# Altium footprint library con-3m.PCBLIB: 62 footprints (part 4 of 6)
Each footprint in its own frame and in the unit in brackets; x right, y up, seen from the top. Pads: shape width x height; smd on the part's side, far side on the other; paste and mask are expansions set on the pad; w line width, h text height; cw(c..) or ccw(c..) is an arc to the next point about the centre after c.
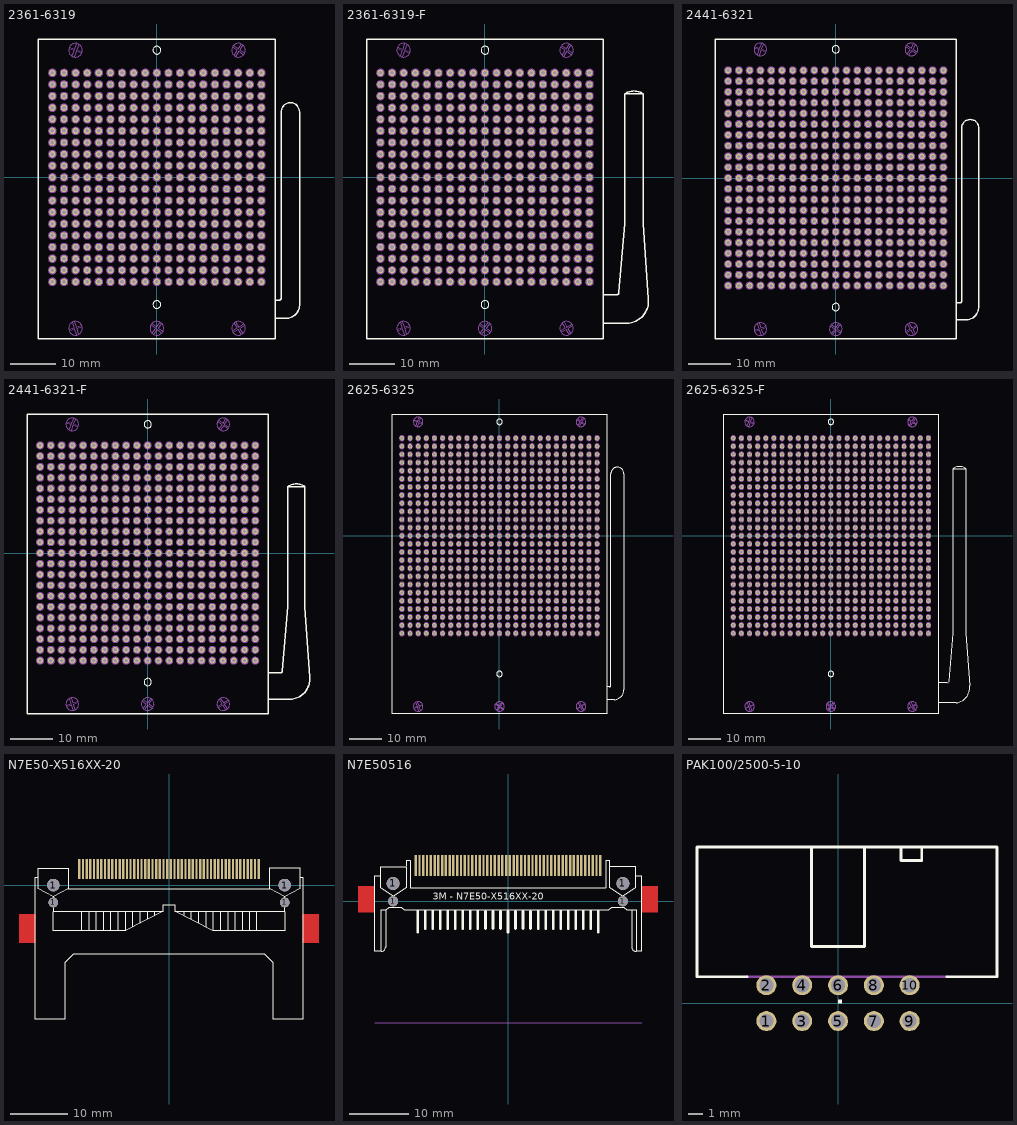
[diagram p3: the footprints below, top view; thin cyan lines are the x and y axes]

## 2361-6319 [mil]
pads (361):
  round 55.12 hole 31.5: A1(-900,900) A2(-800,900) A3(-700,900) A4(-600,900) A5(-500,900) A6(-400,900) A7(-300,900) A8(-200,900) A9(-100,900) A10(0,900) A11(100,900) A12(200,900) A13(300,900) A14(400,900) A15(500,900) A16(600,900) A17(700,900) A18(800,900) A19(900,900) B1(-900,800) B2(-800,800) B3(-700,800) B4(-600,800) B5(-500,800) B6(-400,800) B7(-300,800) B8(-200,800) B9(-100,800) B10(0,800) B11(100,800) B12(200,800) B13(300,800) B14(400,800) B15(500,800) B16(600,800) B17(700,800) B18(800,800) B19(900,800) C1(-900,700) C2(-800,700) C3(-700,700) C4(-600,700) C5(-500,700) C6(-400,700) C7(-300,700) C8(-200,700) C9(-100,700) C10(0,700) C11(100,700) C12(200,700) C13(300,700) C14(400,700) C15(500,700) C16(600,700) C17(700,700) C18(800,700) C19(900,700) D1(-900,600) D2(-800,600) D3(-700,600) D4(-600,600) D5(-500,600) D6(-400,600) D7(-300,600) D8(-200,600) D9(-100,600) D10(0,600) D11(100,600) D12(200,600) D13(300,600) D14(400,600) D15(500,600) D16(600,600) D17(700,600) D18(800,600) D19(900,600) E1(-900,500) E2(-800,500) E3(-700,500) E4(-600,500) E5(-500,500) E6(-400,500) E7(-300,500) E8(-200,500) E9(-100,500) E10(0,500) E11(100,500) E12(200,500) E13(300,500) E14(400,500) E15(500,500) E16(600,500) E17(700,500) E18(800,500) E19(900,500) F1(-900,400) F2(-800,400) F3(-700,400) F4(-600,400) F5(-500,400) F6(-400,400) F7(-300,400) F8(-200,400) F9(-100,400) F10(0,400) F11(100,400) F12(200,400) F13(300,400) F14(400,400) F15(500,400) F16(600,400) F17(700,400) F18(800,400) F19(900,400) G1(-900,300) G2(-800,300) G3(-700,300) G4(-600,300) G5(-500,300) G6(-400,300) G7(-300,300) G8(-200,300) G9(-100,300) G10(0,300) G11(100,300) G12(200,300) G13(300,300) G14(400,300) G15(500,300) G16(600,300) G17(700,300) G18(800,300) G19(900,300) H1(-900,200) H2(-800,200) H3(-700,200) H4(-600,200) H5(-500,200) H6(-400,200) H7(-300,200) H8(-200,200) H9(-100,200) H10(0,200) H11(100,200) H12(200,200) H13(300,200) H14(400,200) H15(500,200) H16(600,200) H17(700,200) H18(800,200) H19(900,200) J1(-900,100) J2(-800,100) J3(-700,100) J4(-600,100) J5(-500,100) J6(-400,100) J7(-300,100) J8(-200,100) J9(-100,100) J10(0,100) J11(100,100) J12(200,100) J13(300,100) J14(400,100) J15(500,100) J16(600,100) J17(700,100) J18(800,100) J19(900,100) K1(-900,0) K2(-800,0) K3(-700,0) K4(-600,0) K5(-500,0) K6(-400,0) K7(-300,0) K8(-200,0) K9(-100,0) K10(0,0) K11(100,0) K12(200,0) K13(300,0) K14(400,0) K15(500,0) K16(600,0) K17(700,0) K18(800,0) K19(900,0) L1(-900,-100) L2(-800,-100) L3(-700,-100) L4(-600,-100) L5(-500,-100) L6(-400,-100) L7(-300,-100) L8(-200,-100) L9(-100,-100) L10(0,-100) L11(100,-100) L12(200,-100) L13(300,-100) L14(400,-100) L15(500,-100) L16(600,-100) L17(700,-100) L18(800,-100) L19(900,-100) M1(-900,-200) M2(-800,-200) M3(-700,-200) M4(-600,-200) M5(-500,-200) M6(-400,-200) M7(-300,-200) M8(-200,-200) M9(-100,-200) M10(0,-200) M11(100,-200) M12(200,-200) M13(300,-200) M14(400,-200) M15(500,-200) M16(600,-200) M17(700,-200) M18(800,-200) M19(900,-200) N1(-900,-300) N2(-800,-300) N3(-700,-300) N4(-600,-300) N5(-500,-300) N6(-400,-300) N7(-300,-300) N8(-200,-300) N9(-100,-300) N10(0,-300) N11(100,-300) N12(200,-300) N13(300,-300) N14(400,-300) N15(500,-300) N16(600,-300) N17(700,-300) N18(800,-300) N19(900,-300) P1(-900,-400) P2(-800,-400) P3(-700,-400) P4(-600,-400) P5(-500,-400) P6(-400,-400) P7(-300,-400) P8(-200,-400) P9(-100,-400) P10(0,-400) P11(100,-400) P12(200,-400) P13(300,-400) P14(400,-400) P15(500,-400) P16(600,-400) P17(700,-400) P18(800,-400) P19(900,-400) Q1(-900,-500) Q2(-800,-500) Q3(-700,-500) Q4(-600,-500) Q5(-500,-500) Q6(-400,-500) Q7(-300,-500) Q8(-200,-500) Q9(-100,-500) Q10(0,-500) Q11(100,-500) Q12(200,-500) Q13(300,-500) Q14(400,-500) Q15(500,-500) Q16(600,-500) Q17(700,-500) Q18(800,-500) Q19(900,-500) R1(-900,-600) R2(-800,-600) R3(-700,-600) R4(-600,-600) R5(-500,-600) R6(-400,-600) R7(-300,-600) R8(-200,-600) R9(-100,-600) R10(0,-600) R11(100,-600) R12(200,-600) R13(300,-600) R14(400,-600) R15(500,-600) R16(600,-600) R17(700,-600) R18(800,-600) R19(900,-600) S1(-900,-700) S2(-800,-700) S3(-700,-700) S4(-600,-700) S5(-500,-700) S6(-400,-700) S7(-300,-700) S8(-200,-700) S9(-100,-700) S10(0,-700) S11(100,-700) S12(200,-700) S13(300,-700) S14(400,-700) S15(500,-700) S16(600,-700) S17(700,-700) S18(800,-700) S19(900,-700) T1(-900,-800) T2(-800,-800) T3(-700,-800) T4(-600,-800) T5(-500,-800) T6(-400,-800) T7(-300,-800) T8(-200,-800) T9(-100,-800) T10(0,-800) T11(100,-800) T12(200,-800) T13(300,-800) T14(400,-800) T15(500,-800) T16(600,-800) T17(700,-800) T18(800,-800) T19(900,-800) U1(-900,-900) U2(-800,-900) U3(-700,-900) U4(-600,-900) U5(-500,-900) U6(-400,-900) U7(-300,-900) U8(-200,-900) U9(-100,-900) U10(0,-900) U11(100,-900) U12(200,-900) U13(300,-900) U14(400,-900) U15(500,-900) U16(600,-900) U17(700,-900) U18(800,-900) U19(900,-900)
Top Overlay:
  circle w4: c0,1095.29 r34.01
  circle w4: c0,-1095.06 r34.01
  lines w12: 1021.3,-1214.76 1110.43,-1214.76 ccw(c1108.37,-1094.59) 1228.54,-1092.52 1228.54,564.96 ccw(c1149.8,564.96) 1149.8,643.7 ccw(c1149.8,564.96) 1071.06,564.96 1071.06,-1037.6 cw(c1051.38,-1037.6) 1051.38,-1057.28 1021.3,-1057.28 ; -1019.88,-1391.93 1019.49,-1391.93 1019.49,1191.54 -1019.88,1191.54 -1019.88,-1391.93
Mechanical 16:
  drawing of 406 lines, arcs and shapes, not listed

## 2361-6319-F [mil]
pads (361):
  round 55.12 hole 31.5: A1(-900,900) A2(-800,900) A3(-700,900) A4(-600,900) A5(-500,900) A6(-400,900) A7(-300,900) A8(-200,900) A9(-100,900) A10(0,900) A11(100,900) A12(200,900) A13(300,900) A14(400,900) A15(500,900) A16(600,900) A17(700,900) A18(800,900) A19(900,900) B1(-900,800) B2(-800,800) B3(-700,800) B4(-600,800) B5(-500,800) B6(-400,800) B7(-300,800) B8(-200,800) B9(-100,800) B10(0,800) B11(100,800) B12(200,800) B13(300,800) B14(400,800) B15(500,800) B16(600,800) B17(700,800) B18(800,800) B19(900,800) C1(-900,700) C2(-800,700) C3(-700,700) C4(-600,700) C5(-500,700) C6(-400,700) C7(-300,700) C8(-200,700) C9(-100,700) C10(0,700) C11(100,700) C12(200,700) C13(300,700) C14(400,700) C15(500,700) C16(600,700) C17(700,700) C18(800,700) C19(900,700) D1(-900,600) D2(-800,600) D3(-700,600) D4(-600,600) D5(-500,600) D6(-400,600) D7(-300,600) D8(-200,600) D9(-100,600) D10(0,600) D11(100,600) D12(200,600) D13(300,600) D14(400,600) D15(500,600) D16(600,600) D17(700,600) D18(800,600) D19(900,600) E1(-900,500) E2(-800,500) E3(-700,500) E4(-600,500) E5(-500,500) E6(-400,500) E7(-300,500) E8(-200,500) E9(-100,500) E10(0,500) E11(100,500) E12(200,500) E13(300,500) E14(400,500) E15(500,500) E16(600,500) E17(700,500) E18(800,500) E19(900,500) F1(-900,400) F2(-800,400) F3(-700,400) F4(-600,400) F5(-500,400) F6(-400,400) F7(-300,400) F8(-200,400) F9(-100,400) F10(0,400) F11(100,400) F12(200,400) F13(300,400) F14(400,400) F15(500,400) F16(600,400) F17(700,400) F18(800,400) F19(900,400) G1(-900,300) G2(-800,300) G3(-700,300) G4(-600,300) G5(-500,300) G6(-400,300) G7(-300,300) G8(-200,300) G9(-100,300) G10(0,300) G11(100,300) G12(200,300) G13(300,300) G14(400,300) G15(500,300) G16(600,300) G17(700,300) G18(800,300) G19(900,300) H1(-900,200) H2(-800,200) H3(-700,200) H4(-600,200) H5(-500,200) H6(-400,200) H7(-300,200) H8(-200,200) H9(-100,200) H10(0,200) H11(100,200) H12(200,200) H13(300,200) H14(400,200) H15(500,200) H16(600,200) H17(700,200) H18(800,200) H19(900,200) J1(-900,100) J2(-800,100) J3(-700,100) J4(-600,100) J5(-500,100) J6(-400,100) J7(-300,100) J8(-200,100) J9(-100,100) J10(0,100) J11(100,100) J12(200,100) J13(300,100) J14(400,100) J15(500,100) J16(600,100) J17(700,100) J18(800,100) J19(900,100) K1(-900,0) K2(-800,0) K3(-700,0) K4(-600,0) K5(-500,0) K6(-400,0) K7(-300,0) K8(-200,0) K9(-100,0) K10(0,0) K11(100,0) K12(200,0) K13(300,0) K14(400,0) K15(500,0) K16(600,0) K17(700,0) K18(800,0) K19(900,0) L1(-900,-100) L2(-800,-100) L3(-700,-100) L4(-600,-100) L5(-500,-100) L6(-400,-100) L7(-300,-100) L8(-200,-100) L9(-100,-100) L10(0,-100) L11(100,-100) L12(200,-100) L13(300,-100) L14(400,-100) L15(500,-100) L16(600,-100) L17(700,-100) L18(800,-100) L19(900,-100) M1(-900,-200) M2(-800,-200) M3(-700,-200) M4(-600,-200) M5(-500,-200) M6(-400,-200) M7(-300,-200) M8(-200,-200) M9(-100,-200) M10(0,-200) M11(100,-200) M12(200,-200) M13(300,-200) M14(400,-200) M15(500,-200) M16(600,-200) M17(700,-200) M18(800,-200) M19(900,-200) N1(-900,-300) N2(-800,-300) N3(-700,-300) N4(-600,-300) N5(-500,-300) N6(-400,-300) N7(-300,-300) N8(-200,-300) N9(-100,-300) N10(0,-300) N11(100,-300) N12(200,-300) N13(300,-300) N14(400,-300) N15(500,-300) N16(600,-300) N17(700,-300) N18(800,-300) N19(900,-300) P1(-900,-400) P2(-800,-400) P3(-700,-400) P4(-600,-400) P5(-500,-400) P6(-400,-400) P7(-300,-400) P8(-200,-400) P9(-100,-400) P10(0,-400) P11(100,-400) P12(200,-400) P13(300,-400) P14(400,-400) P15(500,-400) P16(600,-400) P17(700,-400) P18(800,-400) P19(900,-400) Q1(-900,-500) Q2(-800,-500) Q3(-700,-500) Q4(-600,-500) Q5(-500,-500) Q6(-400,-500) Q7(-300,-500) Q8(-200,-500) Q9(-100,-500) Q10(0,-500) Q11(100,-500) Q12(200,-500) Q13(300,-500) Q14(400,-500) Q15(500,-500) Q16(600,-500) Q17(700,-500) Q18(800,-500) Q19(900,-500) R1(-900,-600) R2(-800,-600) R3(-700,-600) R4(-600,-600) R5(-500,-600) R6(-400,-600) R7(-300,-600) R8(-200,-600) R9(-100,-600) R10(0,-600) R11(100,-600) R12(200,-600) R13(300,-600) R14(400,-600) R15(500,-600) R16(600,-600) R17(700,-600) R18(800,-600) R19(900,-600) S1(-900,-700) S2(-800,-700) S3(-700,-700) S4(-600,-700) S5(-500,-700) S6(-400,-700) S7(-300,-700) S8(-200,-700) S9(-100,-700) S10(0,-700) S11(100,-700) S12(200,-700) S13(300,-700) S14(400,-700) S15(500,-700) S16(600,-700) S17(700,-700) S18(800,-700) S19(900,-700) T1(-900,-800) T2(-800,-800) T3(-700,-800) T4(-600,-800) T5(-500,-800) T6(-400,-800) T7(-300,-800) T8(-200,-800) T9(-100,-800) T10(0,-800) T11(100,-800) T12(200,-800) T13(300,-800) T14(400,-800) T15(500,-800) T16(600,-800) T17(700,-800) T18(800,-800) T19(900,-800) U1(-900,-900) U2(-800,-900) U3(-700,-900) U4(-600,-900) U5(-500,-900) U6(-400,-900) U7(-300,-900) U8(-200,-900) U9(-100,-900) U10(0,-900) U11(100,-900) U12(200,-900) U13(300,-900) U14(400,-900) U15(500,-900) U16(600,-900) U17(700,-900) U18(800,-900) U19(900,-900)
Top Overlay:
  circle w4: c0,1095.29 r34.01
  circle w4: c0,-1095.06 r34.01
  lines w12: 1021.5,-1254.72 1244.49,-1254.72 ccw(c1220.87,-1069.68) 1405.91,-1046.06 1362.2,-399.61 1362.2,718.5 ; 1025.43,-1010.63 1134.25,-1010.63 ccw(c1134.25,-990.94) 1153.94,-990.94 1204.72,-397.64 1204.72,718.5 ; 1204.72,718.5 1362.2,718.5 ; 1204.72,718.5 cw(c1283.46,610.84) 1362.2,718.5 ; -1019.88,-1391.93 1019.49,-1391.93 1019.49,1191.54 -1019.88,1191.54 -1019.88,-1391.93
Mechanical 16:
  drawing of 406 lines, arcs and shapes, not listed

## 2441-6321 [mil]
pads (441):
  round 55.12 hole 31.5: A1(-1000,1000) A2(-900,1000) A3(-800,1000) A4(-700,1000) A5(-600,1000) A6(-500,1000) A7(-400,1000) A8(-300,1000) A9(-200,1000) A10(-100,1000) A11(0,1000) A12(100,1000) A13(200,1000) A14(300,1000) A15(400,1000) A16(500,1000) A17(600,1000) A18(700,1000) A19(800,1000) A20(900,1000) A21(1000,1000) B1(-1000,900) B2(-900,900) B3(-800,900) B4(-700,900) B5(-600,900) B6(-500,900) B7(-400,900) B8(-300,900) B9(-200,900) B10(-100,900) B11(0,900) B12(100,900) B13(200,900) B14(300,900) B15(400,900) B16(500,900) B17(600,900) B18(700,900) B19(800,900) B20(900,900) B21(1000,900) C1(-1000,800) C2(-900,800) C3(-800,800) C4(-700,800) C5(-600,800) C6(-500,800) C7(-400,800) C8(-300,800) C9(-200,800) C10(-100,800) C11(0,800) C12(100,800) C13(200,800) C14(300,800) C15(400,800) C16(500,800) C17(600,800) C18(700,800) C19(800,800) C20(900,800) C21(1000,800) D1(-1000,700) D2(-900,700) D3(-800,700) D4(-700,700) D5(-600,700) D6(-500,700) D7(-400,700) D8(-300,700) D9(-200,700) D10(-100,700) D11(0,700) D12(100,700) D13(200,700) D14(300,700) D15(400,700) D16(500,700) D17(600,700) D18(700,700) D19(800,700) D20(900,700) D21(1000,700) E1(-1000,600) E2(-900,600) E3(-800,600) E4(-700,600) E5(-600,600) E6(-500,600) E7(-400,600) E8(-300,600) E9(-200,600) E10(-100,600) E11(0,600) E12(100,600) E13(200,600) E14(300,600) E15(400,600) E16(500,600) E17(600,600) E18(700,600) E19(800,600) E20(900,600) E21(1000,600) F1(-1000,500) F2(-900,500) F3(-800,500) F4(-700,500) F5(-600,500) F6(-500,500) F7(-400,500) F8(-300,500) F9(-200,500) F10(-100,500) F11(0,500) F12(100,500) F13(200,500) F14(300,500) F15(400,500) F16(500,500) F17(600,500) F18(700,500) F19(800,500) F20(900,500) F21(1000,500) G1(-1000,400) G2(-900,400) G3(-800,400) G4(-700,400) G5(-600,400) G6(-500,400) G7(-400,400) G8(-300,400) G9(-200,400) G10(-100,400) G11(0,400) G12(100,400) G13(200,400) G14(300,400) G15(400,400) G16(500,400) G17(600,400) G18(700,400) G19(800,400) G20(900,400) G21(1000,400) H1(-1000,300) H2(-900,300) H3(-800,300) H4(-700,300) H5(-600,300) H6(-500,300) H7(-400,300) H8(-300,300) H9(-200,300) H10(-100,300) H11(0,300) H12(100,300) H13(200,300) H14(300,300) H15(400,300) H16(500,300) H17(600,300) H18(700,300) H19(800,300) H20(900,300) H21(1000,300) J1(-1000,200) J2(-900,200) J3(-800,200) J4(-700,200) J5(-600,200) J6(-500,200) J7(-400,200) J8(-300,200) J9(-200,200) J10(-100,200) J11(0,200) J12(100,200) J13(200,200) J14(300,200) J15(400,200) J16(500,200) J17(600,200) J18(700,200) J19(800,200) J20(900,200) J21(1000,200) K1(-1000,100) K2(-900,100) K3(-800,100) K4(-700,100) K5(-600,100) K6(-500,100) K7(-400,100) K8(-300,100) K9(-200,100) K10(-100,100) K11(0,100) K12(100,100) K13(200,100) K14(300,100) K15(400,100) K16(500,100) K17(600,100) K18(700,100) K19(800,100) K20(900,100) K21(1000,100) L1(-1000,0) L2(-900,0) L3(-800,0) L4(-700,0) L5(-600,0) L6(-500,0) L7(-400,0) L8(-300,0) L9(-200,0) L10(-100,0) L11(0,0) L12(100,0) L13(200,0) L14(300,0) L15(400,0) L16(500,0) L17(600,0) L18(700,0) L19(800,0) L20(900,0) L21(1000,0) M1(-1000,-100) M2(-900,-100) M3(-800,-100) M4(-700,-100) M5(-600,-100) M6(-500,-100) M7(-400,-100) M8(-300,-100) M9(-200,-100) M10(-100,-100) M11(0,-100) M12(100,-100) M13(200,-100) M14(300,-100) M15(400,-100) M16(500,-100) M17(600,-100) M18(700,-100) M19(800,-100) M20(900,-100) M21(1000,-100) N1(-1000,-200) N2(-900,-200) N3(-800,-200) N4(-700,-200) N5(-600,-200) N6(-500,-200) N7(-400,-200) N8(-300,-200) N9(-200,-200) N10(-100,-200) N11(0,-200) N12(100,-200) N13(200,-200) N14(300,-200) N15(400,-200) N16(500,-200) N17(600,-200) N18(700,-200) N19(800,-200) N20(900,-200) N21(1000,-200) P1(-1000,-300) P2(-900,-300) P3(-800,-300) P4(-700,-300) P5(-600,-300) P6(-500,-300) P7(-400,-300) P8(-300,-300) P9(-200,-300) P10(-100,-300) P11(0,-300) P12(100,-300) P13(200,-300) P14(300,-300) P15(400,-300) P16(500,-300) P17(600,-300) P18(700,-300) P19(800,-300) P20(900,-300) P21(1000,-300) Q1(-1000,-400) Q2(-900,-400) Q3(-800,-400) Q4(-700,-400) Q5(-600,-400) Q6(-500,-400) Q7(-400,-400) Q8(-300,-400) Q9(-200,-400) Q10(-100,-400) Q11(0,-400) Q12(100,-400) Q13(200,-400) Q14(300,-400) Q15(400,-400) Q16(500,-400) Q17(600,-400) Q18(700,-400) Q19(800,-400) Q20(900,-400) Q21(1000,-400) R1(-1000,-500) R2(-900,-500) R3(-800,-500) R4(-700,-500) R5(-600,-500) R6(-500,-500) R7(-400,-500) R8(-300,-500) R9(-200,-500) R10(-100,-500) R11(0,-500) R12(100,-500) R13(200,-500) R14(300,-500) R15(400,-500) R16(500,-500) R17(600,-500) R18(700,-500) R19(800,-500) R20(900,-500) R21(1000,-500) S1(-1000,-600) S2(-900,-600) S3(-800,-600) S4(-700,-600) S5(-600,-600) S6(-500,-600) S7(-400,-600) S8(-300,-600) S9(-200,-600) S10(-100,-600) S11(0,-600) S12(100,-600) S13(200,-600) S14(300,-600) S15(400,-600) S16(500,-600) S17(600,-600) S18(700,-600) S19(800,-600) S20(900,-600) S21(1000,-600) T1(-1000,-700) T2(-900,-700) T3(-800,-700) T4(-700,-700) T5(-600,-700) T6(-500,-700) T7(-400,-700) T8(-300,-700) T9(-200,-700) T10(-100,-700) T11(0,-700) T12(100,-700) T13(200,-700) T14(300,-700) T15(400,-700) T16(500,-700) T17(600,-700) T18(700,-700) T19(800,-700) T20(900,-700) T21(1000,-700) U1(-1000,-800) U2(-900,-800) U3(-800,-800) U4(-700,-800) U5(-600,-800) U6(-500,-800) U7(-400,-800) U8(-300,-800) U9(-200,-800) U10(-100,-800) U11(0,-800) U12(100,-800) U13(200,-800) U14(300,-800) U15(400,-800) U16(500,-800) U17(600,-800) U18(700,-800) U19(800,-800) U20(900,-800) U21(1000,-800) V1(-1000,-900) V2(-900,-900) V3(-800,-900) V4(-700,-900) V5(-600,-900) V6(-500,-900) V7(-400,-900) V8(-300,-900) V9(-200,-900) V10(-100,-900) V11(0,-900) V12(100,-900) V13(200,-900) V14(300,-900) V15(400,-900) V16(500,-900) V17(600,-900) V18(700,-900) V19(800,-900) V20(900,-900) V21(1000,-900) W1(-1000,-1000) W2(-900,-1000) W3(-800,-1000) W4(-700,-1000) W5(-600,-1000) W6(-500,-1000) W7(-400,-1000) W8(-300,-1000) W9(-200,-1000) W10(-100,-1000) W11(0,-1000) W12(100,-1000) W13(200,-1000) W14(300,-1000) W15(400,-1000) W16(500,-1000) W17(600,-1000) W18(700,-1000) W19(800,-1000) W20(900,-1000) W21(1000,-1000)
Top Overlay:
  circle w4: c0,1195.29 r34.01
  circle w4: c0,-1199 r34.01
  lines w12: 1120.51,-1318.7 1209.65,-1318.7 ccw(c1207.59,-1198.53) 1327.76,-1196.46 1327.76,464.96 ccw(c1249.02,464.96) 1249.02,543.7 ccw(c1249.02,464.96) 1170.28,464.96 1170.28,-1141.54 cw(c1150.6,-1141.54) 1150.59,-1161.22 1120.51,-1161.22 ; -1119.09,-1495.87 1118.7,-1495.87 1118.7,1291.54 -1119.09,1291.54 -1119.09,-1495.87
Mechanical 16:
  drawing of 486 lines, arcs and shapes, not listed

## 2441-6321-F [mil]
pads (441):
  round 55.12 hole 31.5: A1(-1000,1000) A2(-900,1000) A3(-800,1000) A4(-700,1000) A5(-600,1000) A6(-500,1000) A7(-400,1000) A8(-300,1000) A9(-200,1000) A10(-100,1000) A11(0,1000) A12(100,1000) A13(200,1000) A14(300,1000) A15(400,1000) A16(500,1000) A17(600,1000) A18(700,1000) A19(800,1000) A20(900,1000) A21(1000,1000) B1(-1000,900) B2(-900,900) B3(-800,900) B4(-700,900) B5(-600,900) B6(-500,900) B7(-400,900) B8(-300,900) B9(-200,900) B10(-100,900) B11(0,900) B12(100,900) B13(200,900) B14(300,900) B15(400,900) B16(500,900) B17(600,900) B18(700,900) B19(800,900) B20(900,900) B21(1000,900) C1(-1000,800) C2(-900,800) C3(-800,800) C4(-700,800) C5(-600,800) C6(-500,800) C7(-400,800) C8(-300,800) C9(-200,800) C10(-100,800) C11(0,800) C12(100,800) C13(200,800) C14(300,800) C15(400,800) C16(500,800) C17(600,800) C18(700,800) C19(800,800) C20(900,800) C21(1000,800) D1(-1000,700) D2(-900,700) D3(-800,700) D4(-700,700) D5(-600,700) D6(-500,700) D7(-400,700) D8(-300,700) D9(-200,700) D10(-100,700) D11(0,700) D12(100,700) D13(200,700) D14(300,700) D15(400,700) D16(500,700) D17(600,700) D18(700,700) D19(800,700) D20(900,700) D21(1000,700) E1(-1000,600) E2(-900,600) E3(-800,600) E4(-700,600) E5(-600,600) E6(-500,600) E7(-400,600) E8(-300,600) E9(-200,600) E10(-100,600) E11(0,600) E12(100,600) E13(200,600) E14(300,600) E15(400,600) E16(500,600) E17(600,600) E18(700,600) E19(800,600) E20(900,600) E21(1000,600) F1(-1000,500) F2(-900,500) F3(-800,500) F4(-700,500) F5(-600,500) F6(-500,500) F7(-400,500) F8(-300,500) F9(-200,500) F10(-100,500) F11(0,500) F12(100,500) F13(200,500) F14(300,500) F15(400,500) F16(500,500) F17(600,500) F18(700,500) F19(800,500) F20(900,500) F21(1000,500) G1(-1000,400) G2(-900,400) G3(-800,400) G4(-700,400) G5(-600,400) G6(-500,400) G7(-400,400) G8(-300,400) G9(-200,400) G10(-100,400) G11(0,400) G12(100,400) G13(200,400) G14(300,400) G15(400,400) G16(500,400) G17(600,400) G18(700,400) G19(800,400) G20(900,400) G21(1000,400) H1(-1000,300) H2(-900,300) H3(-800,300) H4(-700,300) H5(-600,300) H6(-500,300) H7(-400,300) H8(-300,300) H9(-200,300) H10(-100,300) H11(0,300) H12(100,300) H13(200,300) H14(300,300) H15(400,300) H16(500,300) H17(600,300) H18(700,300) H19(800,300) H20(900,300) H21(1000,300) J1(-1000,200) J2(-900,200) J3(-800,200) J4(-700,200) J5(-600,200) J6(-500,200) J7(-400,200) J8(-300,200) J9(-200,200) J10(-100,200) J11(0,200) J12(100,200) J13(200,200) J14(300,200) J15(400,200) J16(500,200) J17(600,200) J18(700,200) J19(800,200) J20(900,200) J21(1000,200) K1(-1000,100) K2(-900,100) K3(-800,100) K4(-700,100) K5(-600,100) K6(-500,100) K7(-400,100) K8(-300,100) K9(-200,100) K10(-100,100) K11(0,100) K12(100,100) K13(200,100) K14(300,100) K15(400,100) K16(500,100) K17(600,100) K18(700,100) K19(800,100) K20(900,100) K21(1000,100) L1(-1000,0) L2(-900,0) L3(-800,0) L4(-700,0) L5(-600,0) L6(-500,0) L7(-400,0) L8(-300,0) L9(-200,0) L10(-100,0) L11(0,0) L12(100,0) L13(200,0) L14(300,0) L15(400,0) L16(500,0) L17(600,0) L18(700,0) L19(800,0) L20(900,0) L21(1000,0) M1(-1000,-100) M2(-900,-100) M3(-800,-100) M4(-700,-100) M5(-600,-100) M6(-500,-100) M7(-400,-100) M8(-300,-100) M9(-200,-100) M10(-100,-100) M11(0,-100) M12(100,-100) M13(200,-100) M14(300,-100) M15(400,-100) M16(500,-100) M17(600,-100) M18(700,-100) M19(800,-100) M20(900,-100) M21(1000,-100) N1(-1000,-200) N2(-900,-200) N3(-800,-200) N4(-700,-200) N5(-600,-200) N6(-500,-200) N7(-400,-200) N8(-300,-200) N9(-200,-200) N10(-100,-200) N11(0,-200) N12(100,-200) N13(200,-200) N14(300,-200) N15(400,-200) N16(500,-200) N17(600,-200) N18(700,-200) N19(800,-200) N20(900,-200) N21(1000,-200) P1(-1000,-300) P2(-900,-300) P3(-800,-300) P4(-700,-300) P5(-600,-300) P6(-500,-300) P7(-400,-300) P8(-300,-300) P9(-200,-300) P10(-100,-300) P11(0,-300) P12(100,-300) P13(200,-300) P14(300,-300) P15(400,-300) P16(500,-300) P17(600,-300) P18(700,-300) P19(800,-300) P20(900,-300) P21(1000,-300) Q1(-1000,-400) Q2(-900,-400) Q3(-800,-400) Q4(-700,-400) Q5(-600,-400) Q6(-500,-400) Q7(-400,-400) Q8(-300,-400) Q9(-200,-400) Q10(-100,-400) Q11(0,-400) Q12(100,-400) Q13(200,-400) Q14(300,-400) Q15(400,-400) Q16(500,-400) Q17(600,-400) Q18(700,-400) Q19(800,-400) Q20(900,-400) Q21(1000,-400) R1(-1000,-500) R2(-900,-500) R3(-800,-500) R4(-700,-500) R5(-600,-500) R6(-500,-500) R7(-400,-500) R8(-300,-500) R9(-200,-500) R10(-100,-500) R11(0,-500) R12(100,-500) R13(200,-500) R14(300,-500) R15(400,-500) R16(500,-500) R17(600,-500) R18(700,-500) R19(800,-500) R20(900,-500) R21(1000,-500) S1(-1000,-600) S2(-900,-600) S3(-800,-600) S4(-700,-600) S5(-600,-600) S6(-500,-600) S7(-400,-600) S8(-300,-600) S9(-200,-600) S10(-100,-600) S11(0,-600) S12(100,-600) S13(200,-600) S14(300,-600) S15(400,-600) S16(500,-600) S17(600,-600) S18(700,-600) S19(800,-600) S20(900,-600) S21(1000,-600) T1(-1000,-700) T2(-900,-700) T3(-800,-700) T4(-700,-700) T5(-600,-700) T6(-500,-700) T7(-400,-700) T8(-300,-700) T9(-200,-700) T10(-100,-700) T11(0,-700) T12(100,-700) T13(200,-700) T14(300,-700) T15(400,-700) T16(500,-700) T17(600,-700) T18(700,-700) T19(800,-700) T20(900,-700) T21(1000,-700) U1(-1000,-800) U2(-900,-800) U3(-800,-800) U4(-700,-800) U5(-600,-800) U6(-500,-800) U7(-400,-800) U8(-300,-800) U9(-200,-800) U10(-100,-800) U11(0,-800) U12(100,-800) U13(200,-800) U14(300,-800) U15(400,-800) U16(500,-800) U17(600,-800) U18(700,-800) U19(800,-800) U20(900,-800) U21(1000,-800) V1(-1000,-900) V2(-900,-900) V3(-800,-900) V4(-700,-900) V5(-600,-900) V6(-500,-900) V7(-400,-900) V8(-300,-900) V9(-200,-900) V10(-100,-900) V11(0,-900) V12(100,-900) V13(200,-900) V14(300,-900) V15(400,-900) V16(500,-900) V17(600,-900) V18(700,-900) V19(800,-900) V20(900,-900) V21(1000,-900) W1(-1000,-1000) W2(-900,-1000) W3(-800,-1000) W4(-700,-1000) W5(-600,-1000) W6(-500,-1000) W7(-400,-1000) W8(-300,-1000) W9(-200,-1000) W10(-100,-1000) W11(0,-1000) W12(100,-1000) W13(200,-1000) W14(300,-1000) W15(400,-1000) W16(500,-1000) W17(600,-1000) W18(700,-1000) W19(800,-1000) W20(900,-1000) W21(1000,-1000)
Top Overlay:
  circle w4: c0,1195.29 r34.01
  circle w4: c0,-1199 r34.01
  lines w12: 1119.92,-1357.09 1342.91,-1357.09 ccw(c1319.29,-1172.05) 1504.33,-1148.43 1460.63,-501.97 1460.63,616.14 ; 1123.86,-1112.99 1232.68,-1112.99 ccw(c1232.68,-1093.31) 1252.36,-1093.31 1303.15,-500 1303.15,616.14 ; 1303.15,616.14 1460.63,616.14 ; 1303.15,616.14 cw(c1381.89,508.48) 1460.63,616.14 ; -1119.09,-1495.87 1118.7,-1495.87 1118.7,1291.54 -1119.09,1291.54 -1119.09,-1495.87
Mechanical 16:
  drawing of 486 lines, arcs and shapes, not listed

## 2625-6325 [mil]
pads (625):
  round 55.12 hole 31.5: A1(-1200,1200) A2(-1100,1200) A3(-1000,1200) A4(-900,1200) A5(-800,1200) A6(-700,1200) A7(-600,1200) A8(-500,1200) A9(-400,1200) A10(-300,1200) A11(-200,1200) A12(-100,1200) A13(0,1200) A14(100,1200) A15(200,1200) A16(300,1200) A17(400,1200) A18(500,1200) A19(600,1200) A20(700,1200) A21(800,1200) A22(900,1200) A23(1000,1200) A24(1100,1200) A25(1200,1200) AA1(-1200,-1200) AA2(-1100,-1200) AA3(-1000,-1200) AA4(-900,-1200) AA5(-800,-1200) AA6(-700,-1200) AA7(-600,-1200) AA8(-500,-1200) AA9(-400,-1200) AA10(-300,-1200) AA11(-200,-1200) AA12(-100,-1200) AA13(0,-1200) AA14(100,-1200) AA15(200,-1200) AA16(300,-1200) AA17(400,-1200) AA18(500,-1200) AA19(600,-1200) AA20(700,-1200) AA21(800,-1200) AA22(900,-1200) AA23(1000,-1200) AA24(1100,-1200) AA25(1200,-1200) B1(-1200,1100) B2(-1100,1100) B3(-1000,1100) B4(-900,1100) B5(-800,1100) B6(-700,1100) B7(-600,1100) B8(-500,1100) B9(-400,1100) B10(-300,1100) B11(-200,1100) B12(-100,1100) B13(0,1100) B14(100,1100) B15(200,1100) B16(300,1100) B17(400,1100) B18(500,1100) B19(600,1100) B20(700,1100) B21(800,1100) B22(900,1100) B23(1000,1100) B24(1100,1100) B25(1200,1100) C1(-1200,1000) C2(-1100,1000) C3(-1000,1000) C4(-900,1000) C5(-800,1000) C6(-700,1000) C7(-600,1000) C8(-500,1000) C9(-400,1000) C10(-300,1000) C11(-200,1000) C12(-100,1000) C13(0,1000) C14(100,1000) C15(200,1000) C16(300,1000) C17(400,1000) C18(500,1000) C19(600,1000) C20(700,1000) C21(800,1000) C22(900,1000) C23(1000,1000) C24(1100,1000) C25(1200,1000) D1(-1200,900) D2(-1100,900) D3(-1000,900) D4(-900,900) D5(-800,900) D6(-700,900) D7(-600,900) D8(-500,900) D9(-400,900) D10(-300,900) D11(-200,900) D12(-100,900) D13(0,900) D14(100,900) D15(200,900) D16(300,900) D17(400,900) D18(500,900) D19(600,900) D20(700,900) D21(800,900) D22(900,900) D23(1000,900) D24(1100,900) D25(1200,900) E1(-1200,800) E2(-1100,800) E3(-1000,800) E4(-900,800) E5(-800,800) E6(-700,800) E7(-600,800) E8(-500,800) E9(-400,800) E10(-300,800) E11(-200,800) E12(-100,800) E13(0,800) E14(100,800) E15(200,800) E16(300,800) E17(400,800) E18(500,800) E19(600,800) E20(700,800) E21(800,800) E22(900,800) E23(1000,800) E24(1100,800) E25(1200,800) F1(-1200,700) F2(-1100,700) F3(-1000,700) F4(-900,700) F5(-800,700) F6(-700,700) F7(-600,700) F8(-500,700) F9(-400,700) F10(-300,700) F11(-200,700) F12(-100,700) F13(0,700) F14(100,700) F15(200,700) F16(300,700) F17(400,700) F18(500,700) F19(600,700) F20(700,700) F21(800,700) F22(900,700) F23(1000,700) F24(1100,700) F25(1200,700) G1(-1200,600) G2(-1100,600) G3(-1000,600) G4(-900,600) G5(-800,600) G6(-700,600) G7(-600,600) G8(-500,600) G9(-400,600) G10(-300,600) G11(-200,600) G12(-100,600) G13(0,600) G14(100,600) G15(200,600) G16(300,600) G17(400,600) G18(500,600) G19(600,600) G20(700,600) G21(800,600) G22(900,600) G23(1000,600) G24(1100,600) G25(1200,600) H1(-1200,500) H2(-1100,500) H3(-1000,500) H4(-900,500) H5(-800,500) H6(-700,500) H7(-600,500) H8(-500,500) H9(-400,500) H10(-300,500) H11(-200,500) H12(-100,500) H13(0,500) H14(100,500) H15(200,500) H16(300,500) H17(400,500) H18(500,500) H19(600,500) H20(700,500) H21(800,500) H22(900,500) H23(1000,500) H24(1100,500) H25(1200,500) J1(-1200,400) J2(-1100,400) J3(-1000,400) J4(-900,400) J5(-800,400) J6(-700,400) J7(-600,400) J8(-500,400) J9(-400,400) J10(-300,400) J11(-200,400) J12(-100,400) J13(0,400) J14(100,400) J15(200,400) J16(300,400) J17(400,400) J18(500,400) J19(600,400) J20(700,400) J21(800,400) J22(900,400) J23(1000,400) J24(1100,400) J25(1200,400) K1(-1200,300) K2(-1100,300) K3(-1000,300) K4(-900,300) K5(-800,300) K6(-700,300) K7(-600,300) K8(-500,300) K9(-400,300) K10(-300,300) K11(-200,300) K12(-100,300) K13(0,300) K14(100,300) K15(200,300) K16(300,300) K17(400,300) K18(500,300) K19(600,300) K20(700,300) K21(800,300) K22(900,300) K23(1000,300) K24(1100,300) K25(1200,300) L1(-1200,200) L2(-1100,200) L3(-1000,200) L4(-900,200) L5(-800,200) L6(-700,200) L7(-600,200) L8(-500,200) L9(-400,200) L10(-300,200) L11(-200,200) L12(-100,200) L13(0,200) L14(100,200) L15(200,200) L16(300,200) L17(400,200) L18(500,200) L19(600,200) L20(700,200) L21(800,200) L22(900,200) L23(1000,200) L24(1100,200) L25(1200,200) M1(-1200,100) M2(-1100,100) M3(-1000,100) M4(-900,100) M5(-800,100) M6(-700,100) M7(-600,100) M8(-500,100) M9(-400,100) M10(-300,100) M11(-200,100) M12(-100,100) M13(0,100) M14(100,100) M15(200,100) M16(300,100) M17(400,100) M18(500,100) M19(600,100) M20(700,100) M21(800,100) M22(900,100) M23(1000,100) M24(1100,100) M25(1200,100) N1(-1200,0) N2(-1100,0) N3(-1000,0) N4(-900,0) N5(-800,0) N6(-700,0) N7(-600,0) N8(-500,0) N9(-400,0) N10(-300,0) N11(-200,0) N12(-100,0) N13(0,0) N14(100,0) N15(200,0) N16(300,0) N17(400,0) N18(500,0) N19(600,0) N20(700,0) N21(800,0) N22(900,0) N23(1000,0) N24(1100,0) N25(1200,0) P1(-1200,-100) P2(-1100,-100) P3(-1000,-100) P4(-900,-100) P5(-800,-100) P6(-700,-100) P7(-600,-100) P8(-500,-100) P9(-400,-100) P10(-300,-100) P11(-200,-100) P12(-100,-100) P13(0,-100) P14(100,-100) P15(200,-100) P16(300,-100) P17(400,-100) P18(500,-100) P19(600,-100) P20(700,-100) P21(800,-100) P22(900,-100) P23(1000,-100) P24(1100,-100) P25(1200,-100) Q1(-1200,-200) Q2(-1100,-200) Q3(-1000,-200) Q4(-900,-200) Q5(-800,-200) Q6(-700,-200) Q7(-600,-200) Q8(-500,-200) Q9(-400,-200) Q10(-300,-200) Q11(-200,-200) Q12(-100,-200) Q13(0,-200) Q14(100,-200) Q15(200,-200) Q16(300,-200) Q17(400,-200) Q18(500,-200) Q19(600,-200) Q20(700,-200) Q21(800,-200) Q22(900,-200) Q23(1000,-200) Q24(1100,-200) Q25(1200,-200) R1(-1200,-300) R2(-1100,-300) R3(-1000,-300) R4(-900,-300) R5(-800,-300) R6(-700,-300) R7(-600,-300) R8(-500,-300) R9(-400,-300) R10(-300,-300) R11(-200,-300) R12(-100,-300) R13(0,-300) R14(100,-300) R15(200,-300) R16(300,-300) R17(400,-300) R18(500,-300) R19(600,-300) R20(700,-300) R21(800,-300) R22(900,-300) R23(1000,-300) R24(1100,-300) R25(1200,-300) S1(-1200,-400) S2(-1100,-400) S3(-1000,-400) S4(-900,-400) S5(-800,-400) S6(-700,-400) S7(-600,-400) S8(-500,-400) S9(-400,-400) S10(-300,-400) S11(-200,-400) S12(-100,-400) S13(0,-400) S14(100,-400) S15(200,-400) S16(300,-400) S17(400,-400) S18(500,-400) S19(600,-400) S20(700,-400) S21(800,-400) S22(900,-400) S23(1000,-400) S24(1100,-400) S25(1200,-400) T1(-1200,-500) T2(-1100,-500) T3(-1000,-500) T4(-900,-500) T5(-800,-500) T6(-700,-500) T7(-600,-500) T8(-500,-500) T9(-400,-500) T10(-300,-500) T11(-200,-500) T12(-100,-500) T13(0,-500) T14(100,-500) T15(200,-500) T16(300,-500) T17(400,-500) T18(500,-500) T19(600,-500) T20(700,-500) T21(800,-500) T22(900,-500) T23(1000,-500) T24(1100,-500) T25(1200,-500) U1(-1200,-600) U2(-1100,-600) U3(-1000,-600) U4(-900,-600) U5(-800,-600) U6(-700,-600) U7(-600,-600) U8(-500,-600) U9(-400,-600) U10(-300,-600) U11(-200,-600) U12(-100,-600) U13(0,-600) U14(100,-600) U15(200,-600) U16(300,-600) U17(400,-600) U18(500,-600) U19(600,-600) U20(700,-600) U21(800,-600) U22(900,-600) U23(1000,-600) U24(1100,-600) U25(1200,-600) V1(-1200,-700) V2(-1100,-700) V3(-1000,-700) V4(-900,-700) V5(-800,-700) V6(-700,-700) V7(-600,-700) V8(-500,-700) V9(-400,-700) V10(-300,-700) V11(-200,-700) V12(-100,-700) V13(0,-700) V14(100,-700) V15(200,-700) V16(300,-700) V17(400,-700) V18(500,-700) V19(600,-700) V20(700,-700) V21(800,-700) V22(900,-700) V23(1000,-700) V24(1100,-700) V25(1200,-700) W1(-1200,-800) W2(-1100,-800) W3(-1000,-800) W4(-900,-800) W5(-800,-800) W6(-700,-800) W7(-600,-800) W8(-500,-800) W9(-400,-800) W10(-300,-800) W11(-200,-800) W12(-100,-800) W13(0,-800) W14(100,-800) W15(200,-800) W16(300,-800) W17(400,-800) W18(500,-800) W19(600,-800) W20(700,-800) W21(800,-800) W22(900,-800) W23(1000,-800) W24(1100,-800) W25(1200,-800) X1(-1200,-900) X2(-1100,-900) X3(-1000,-900) X4(-900,-900) X5(-800,-900) X6(-700,-900) X7(-600,-900) X8(-500,-900) X9(-400,-900) X10(-300,-900) X11(-200,-900) X12(-100,-900) X13(0,-900) X14(100,-900) X15(200,-900) X16(300,-900) X17(400,-900) X18(500,-900) X19(600,-900) X20(700,-900) X21(800,-900) X22(900,-900) X23(1000,-900) X24(1100,-900) X25(1200,-900) Y1(-1200,-1000) Y2(-1100,-1000) Y3(-1000,-1000) Y4(-900,-1000) Y5(-800,-1000) Y6(-700,-1000) Y7(-600,-1000) Y8(-500,-1000) Y9(-400,-1000) Y10(-300,-1000) Y11(-200,-1000) Y12(-100,-1000) Y13(0,-1000) Y14(100,-1000) Y15(200,-1000) Y16(300,-1000) Y17(400,-1000) Y18(500,-1000) Y19(600,-1000) Y20(700,-1000) Y21(800,-1000) Y22(900,-1000) Y23(1000,-1000) Y24(1100,-1000) Y25(1200,-1000) Z1(-1200,-1100) Z2(-1100,-1100) Z3(-1000,-1100) Z4(-900,-1100) Z5(-800,-1100) Z6(-700,-1100) Z7(-600,-1100) Z8(-500,-1100) Z9(-400,-1100) Z10(-300,-1100) Z11(-200,-1100) Z12(-100,-1100) Z13(0,-1100) Z14(100,-1100) Z15(200,-1100) Z16(300,-1100) Z17(400,-1100) Z18(500,-1100) Z19(600,-1100) Z20(700,-1100) Z21(800,-1100) Z22(900,-1100) Z23(1000,-1100) Z24(1100,-1100) Z25(1200,-1100)
Top Overlay:
  circle w4: c0,1401 r34.01
  circle w4: c0,-1699 r34.01
  lines w12: 1320.71,-2014.57 1409.84,-2014.57 ccw(c1409.84,-1896.46) 1527.95,-1896.46 1527.95,764.96 ccw(c1449.21,764.96) 1449.21,843.7 ccw(c1449.21,764.96) 1370.47,764.96 1370.47,-1837.4 cw(c1350.79,-1837.4) 1350.79,-1857.09 1320.71,-1857.09 ; -1318.9,-2191.73 1318.9,-2191.73 1318.9,1497.24 -1318.9,1497.24 -1318.9,-2191.73
Mechanical 16:
  drawing of 670 lines, arcs and shapes, not listed

## 2625-6325-F [mil]
pads (625):
  round 55.12 hole 31.5: A1(-1200,1200) A2(-1100,1200) A3(-1000,1200) A4(-900,1200) A5(-800,1200) A6(-700,1200) A7(-600,1200) A8(-500,1200) A9(-400,1200) A10(-300,1200) A11(-200,1200) A12(-100,1200) A13(0,1200) A14(100,1200) A15(200,1200) A16(300,1200) A17(400,1200) A18(500,1200) A19(600,1200) A20(700,1200) A21(800,1200) A22(900,1200) A23(1000,1200) A24(1100,1200) A25(1200,1200) AA1(-1200,-1200) AA2(-1100,-1200) AA3(-1000,-1200) AA4(-900,-1200) AA5(-800,-1200) AA6(-700,-1200) AA7(-600,-1200) AA8(-500,-1200) AA9(-400,-1200) AA10(-300,-1200) AA11(-200,-1200) AA12(-100,-1200) AA13(0,-1200) AA14(100,-1200) AA15(200,-1200) AA16(300,-1200) AA17(400,-1200) AA18(500,-1200) AA19(600,-1200) AA20(700,-1200) AA21(800,-1200) AA22(900,-1200) AA23(1000,-1200) AA24(1100,-1200) AA25(1200,-1200) B1(-1200,1100) B2(-1100,1100) B3(-1000,1100) B4(-900,1100) B5(-800,1100) B6(-700,1100) B7(-600,1100) B8(-500,1100) B9(-400,1100) B10(-300,1100) B11(-200,1100) B12(-100,1100) B13(0,1100) B14(100,1100) B15(200,1100) B16(300,1100) B17(400,1100) B18(500,1100) B19(600,1100) B20(700,1100) B21(800,1100) B22(900,1100) B23(1000,1100) B24(1100,1100) B25(1200,1100) C1(-1200,1000) C2(-1100,1000) C3(-1000,1000) C4(-900,1000) C5(-800,1000) C6(-700,1000) C7(-600,1000) C8(-500,1000) C9(-400,1000) C10(-300,1000) C11(-200,1000) C12(-100,1000) C13(0,1000) C14(100,1000) C15(200,1000) C16(300,1000) C17(400,1000) C18(500,1000) C19(600,1000) C20(700,1000) C21(800,1000) C22(900,1000) C23(1000,1000) C24(1100,1000) C25(1200,1000) D1(-1200,900) D2(-1100,900) D3(-1000,900) D4(-900,900) D5(-800,900) D6(-700,900) D7(-600,900) D8(-500,900) D9(-400,900) D10(-300,900) D11(-200,900) D12(-100,900) D13(0,900) D14(100,900) D15(200,900) D16(300,900) D17(400,900) D18(500,900) D19(600,900) D20(700,900) D21(800,900) D22(900,900) D23(1000,900) D24(1100,900) D25(1200,900) E1(-1200,800) E2(-1100,800) E3(-1000,800) E4(-900,800) E5(-800,800) E6(-700,800) E7(-600,800) E8(-500,800) E9(-400,800) E10(-300,800) E11(-200,800) E12(-100,800) E13(0,800) E14(100,800) E15(200,800) E16(300,800) E17(400,800) E18(500,800) E19(600,800) E20(700,800) E21(800,800) E22(900,800) E23(1000,800) E24(1100,800) E25(1200,800) F1(-1200,700) F2(-1100,700) F3(-1000,700) F4(-900,700) F5(-800,700) F6(-700,700) F7(-600,700) F8(-500,700) F9(-400,700) F10(-300,700) F11(-200,700) F12(-100,700) F13(0,700) F14(100,700) F15(200,700) F16(300,700) F17(400,700) F18(500,700) F19(600,700) F20(700,700) F21(800,700) F22(900,700) F23(1000,700) F24(1100,700) F25(1200,700) G1(-1200,600) G2(-1100,600) G3(-1000,600) G4(-900,600) G5(-800,600) G6(-700,600) G7(-600,600) G8(-500,600) G9(-400,600) G10(-300,600) G11(-200,600) G12(-100,600) G13(0,600) G14(100,600) G15(200,600) G16(300,600) G17(400,600) G18(500,600) G19(600,600) G20(700,600) G21(800,600) G22(900,600) G23(1000,600) G24(1100,600) G25(1200,600) H1(-1200,500) H2(-1100,500) H3(-1000,500) H4(-900,500) H5(-800,500) H6(-700,500) H7(-600,500) H8(-500,500) H9(-400,500) H10(-300,500) H11(-200,500) H12(-100,500) H13(0,500) H14(100,500) H15(200,500) H16(300,500) H17(400,500) H18(500,500) H19(600,500) H20(700,500) H21(800,500) H22(900,500) H23(1000,500) H24(1100,500) H25(1200,500) J1(-1200,400) J2(-1100,400) J3(-1000,400) J4(-900,400) J5(-800,400) J6(-700,400) J7(-600,400) J8(-500,400) J9(-400,400) J10(-300,400) J11(-200,400) J12(-100,400) J13(0,400) J14(100,400) J15(200,400) J16(300,400) J17(400,400) J18(500,400) J19(600,400) J20(700,400) J21(800,400) J22(900,400) J23(1000,400) J24(1100,400) J25(1200,400) K1(-1200,300) K2(-1100,300) K3(-1000,300) K4(-900,300) K5(-800,300) K6(-700,300) K7(-600,300) K8(-500,300) K9(-400,300) K10(-300,300) K11(-200,300) K12(-100,300) K13(0,300) K14(100,300) K15(200,300) K16(300,300) K17(400,300) K18(500,300) K19(600,300) K20(700,300) K21(800,300) K22(900,300) K23(1000,300) K24(1100,300) K25(1200,300) L1(-1200,200) L2(-1100,200) L3(-1000,200) L4(-900,200) L5(-800,200) L6(-700,200) L7(-600,200) L8(-500,200) L9(-400,200) L10(-300,200) L11(-200,200) L12(-100,200) L13(0,200) L14(100,200) L15(200,200) L16(300,200) L17(400,200) L18(500,200) L19(600,200) L20(700,200) L21(800,200) L22(900,200) L23(1000,200) L24(1100,200) L25(1200,200) M1(-1200,100) M2(-1100,100) M3(-1000,100) M4(-900,100) M5(-800,100) M6(-700,100) M7(-600,100) M8(-500,100) M9(-400,100) M10(-300,100) M11(-200,100) M12(-100,100) M13(0,100) M14(100,100) M15(200,100) M16(300,100) M17(400,100) M18(500,100) M19(600,100) M20(700,100) M21(800,100) M22(900,100) M23(1000,100) M24(1100,100) M25(1200,100) N1(-1200,0) N2(-1100,0) N3(-1000,0) N4(-900,0) N5(-800,0) N6(-700,0) N7(-600,0) N8(-500,0) N9(-400,0) N10(-300,0) N11(-200,0) N12(-100,0) N13(0,0) N14(100,0) N15(200,0) N16(300,0) N17(400,0) N18(500,0) N19(600,0) N20(700,0) N21(800,0) N22(900,0) N23(1000,0) N24(1100,0) N25(1200,0) P1(-1200,-100) P2(-1100,-100) P3(-1000,-100) P4(-900,-100) P5(-800,-100) P6(-700,-100) P7(-600,-100) P8(-500,-100) P9(-400,-100) P10(-300,-100) P11(-200,-100) P12(-100,-100) P13(0,-100) P14(100,-100) P15(200,-100) P16(300,-100) P17(400,-100) P18(500,-100) P19(600,-100) P20(700,-100) P21(800,-100) P22(900,-100) P23(1000,-100) P24(1100,-100) P25(1200,-100) Q1(-1200,-200) Q2(-1100,-200) Q3(-1000,-200) Q4(-900,-200) Q5(-800,-200) Q6(-700,-200) Q7(-600,-200) Q8(-500,-200) Q9(-400,-200) Q10(-300,-200) Q11(-200,-200) Q12(-100,-200) Q13(0,-200) Q14(100,-200) Q15(200,-200) Q16(300,-200) Q17(400,-200) Q18(500,-200) Q19(600,-200) Q20(700,-200) Q21(800,-200) Q22(900,-200) Q23(1000,-200) Q24(1100,-200) Q25(1200,-200) R1(-1200,-300) R2(-1100,-300) R3(-1000,-300) R4(-900,-300) R5(-800,-300) R6(-700,-300) R7(-600,-300) R8(-500,-300) R9(-400,-300) R10(-300,-300) R11(-200,-300) R12(-100,-300) R13(0,-300) R14(100,-300) R15(200,-300) R16(300,-300) R17(400,-300) R18(500,-300) R19(600,-300) R20(700,-300) R21(800,-300) R22(900,-300) R23(1000,-300) R24(1100,-300) R25(1200,-300) S1(-1200,-400) S2(-1100,-400) S3(-1000,-400) S4(-900,-400) S5(-800,-400) S6(-700,-400) S7(-600,-400) S8(-500,-400) S9(-400,-400) S10(-300,-400) S11(-200,-400) S12(-100,-400) S13(0,-400) S14(100,-400) S15(200,-400) S16(300,-400) S17(400,-400) S18(500,-400) S19(600,-400) S20(700,-400) S21(800,-400) S22(900,-400) S23(1000,-400) S24(1100,-400) S25(1200,-400) T1(-1200,-500) T2(-1100,-500) T3(-1000,-500) T4(-900,-500) T5(-800,-500) T6(-700,-500) T7(-600,-500) T8(-500,-500) T9(-400,-500) T10(-300,-500) T11(-200,-500) T12(-100,-500) T13(0,-500) T14(100,-500) T15(200,-500) T16(300,-500) T17(400,-500) T18(500,-500) T19(600,-500) T20(700,-500) T21(800,-500) T22(900,-500) T23(1000,-500) T24(1100,-500) T25(1200,-500) U1(-1200,-600) U2(-1100,-600) U3(-1000,-600) U4(-900,-600) U5(-800,-600) U6(-700,-600) U7(-600,-600) U8(-500,-600) U9(-400,-600) U10(-300,-600) U11(-200,-600) U12(-100,-600) U13(0,-600) U14(100,-600) U15(200,-600) U16(300,-600) U17(400,-600) U18(500,-600) U19(600,-600) U20(700,-600) U21(800,-600) U22(900,-600) U23(1000,-600) U24(1100,-600) U25(1200,-600) V1(-1200,-700) V2(-1100,-700) V3(-1000,-700) V4(-900,-700) V5(-800,-700) V6(-700,-700) V7(-600,-700) V8(-500,-700) V9(-400,-700) V10(-300,-700) V11(-200,-700) V12(-100,-700) V13(0,-700) V14(100,-700) V15(200,-700) V16(300,-700) V17(400,-700) V18(500,-700) V19(600,-700) V20(700,-700) V21(800,-700) V22(900,-700) V23(1000,-700) V24(1100,-700) V25(1200,-700) W1(-1200,-800) W2(-1100,-800) W3(-1000,-800) W4(-900,-800) W5(-800,-800) W6(-700,-800) W7(-600,-800) W8(-500,-800) W9(-400,-800) W10(-300,-800) W11(-200,-800) W12(-100,-800) W13(0,-800) W14(100,-800) W15(200,-800) W16(300,-800) W17(400,-800) W18(500,-800) W19(600,-800) W20(700,-800) W21(800,-800) W22(900,-800) W23(1000,-800) W24(1100,-800) W25(1200,-800) X1(-1200,-900) X2(-1100,-900) X3(-1000,-900) X4(-900,-900) X5(-800,-900) X6(-700,-900) X7(-600,-900) X8(-500,-900) X9(-400,-900) X10(-300,-900) X11(-200,-900) X12(-100,-900) X13(0,-900) X14(100,-900) X15(200,-900) X16(300,-900) X17(400,-900) X18(500,-900) X19(600,-900) X20(700,-900) X21(800,-900) X22(900,-900) X23(1000,-900) X24(1100,-900) X25(1200,-900) Y1(-1200,-1000) Y2(-1100,-1000) Y3(-1000,-1000) Y4(-900,-1000) Y5(-800,-1000) Y6(-700,-1000) Y7(-600,-1000) Y8(-500,-1000) Y9(-400,-1000) Y10(-300,-1000) Y11(-200,-1000) Y12(-100,-1000) Y13(0,-1000) Y14(100,-1000) Y15(200,-1000) Y16(300,-1000) Y17(400,-1000) Y18(500,-1000) Y19(600,-1000) Y20(700,-1000) Y21(800,-1000) Y22(900,-1000) Y23(1000,-1000) Y24(1100,-1000) Y25(1200,-1000) Z1(-1200,-1100) Z2(-1100,-1100) Z3(-1000,-1100) Z4(-900,-1100) Z5(-800,-1100) Z6(-700,-1100) Z7(-600,-1100) Z8(-500,-1100) Z9(-400,-1100) Z10(-300,-1100) Z11(-200,-1100) Z12(-100,-1100) Z13(0,-1100) Z14(100,-1100) Z15(200,-1100) Z16(300,-1100) Z17(400,-1100) Z18(500,-1100) Z19(600,-1100) Z20(700,-1100) Z21(800,-1100) Z22(900,-1100) Z23(1000,-1100) Z24(1100,-1100) Z25(1200,-1100)
Top Overlay:
  circle w4: c0,1401 r34.01
  circle w4: c0,-1699 r34.01
  lines w12: 1320.71,-2053.94 1543.7,-2053.94 ccw(c1520.08,-1868.9) 1705.12,-1845.28 1661.42,-1198.82 1661.42,824.8 ; 1324.65,-1809.84 1433.46,-1809.84 ; 1453.15,-1790.16 1503.94,-1196.85 1503.94,824.8 ; 1503.94,824.8 1661.42,824.8 ; 1503.94,824.8 cw(c1582.68,717.14) 1661.42,824.8 ; -1318.9,-2191.73 1318.9,-2191.73 1318.9,1497.24 -1318.9,1497.24 -1318.9,-2191.73
Mechanical 16:
  drawing of 671 lines, arcs and shapes, not listed

## N7E50-X516XX-20 [mm]
pads (54):
  round 1.7 hole 1.7: 1(-20.08,-3) 1(20.08,-3)
  round 2.2 hole 2.2: 1(-20.08,0) 1(20.08,0)
  rect 0.4x3.5 smd: 1(-15.557,2.81) 2(-14.287,2.81) 3(-13.018,2.81) 4(-11.747,2.81) 5(-10.477,2.81) 6(-9.207,2.81) 7(-7.938,2.81) 8(-6.667,2.81) 9(-5.397,2.81) 10(-4.127,2.81) 11(-2.857,2.81) 12(-1.587,2.81) 13(-0.318,2.81) 14(0.953,2.81) 15(2.222,2.81) 16(3.492,2.81) 17(4.763,2.81) 18(6.032,2.81) 19(7.302,2.81) 20(8.572,2.81) 21(9.842,2.81) 22(11.112,2.81) 23(12.383,2.81) 24(13.652,2.81) 25(14.922,2.81) 26(-14.922,2.81) 27(-13.652,2.81) 28(-12.383,2.81) 29(-11.112,2.81) 30(-9.842,2.81) 31(-8.572,2.81) 32(-7.302,2.81) 33(-6.032,2.81) 34(-4.763,2.81) 35(-3.492,2.81) 36(-2.222,2.81) 37(-0.953,2.81) 38(0.318,2.81) 39(1.587,2.81) 40(2.857,2.81) 41(4.127,2.81) 42(5.397,2.81) 43(6.667,2.81) 44(7.938,2.81) 45(9.207,2.81) 46(10.477,2.81) 47(11.747,2.81) 48(13.018,2.81) 49(14.287,2.81) 50(15.557,2.81)
Top Layer:
  rectangle: -26.035,-10.065 -23.177,-4.985
  rectangle: 23.177,-10.09 26.035,-5.01
Top Overlay:
  lines w0.203: -20.066,-4.668 -20.066,-7.906 -7.62,-7.906 ; -15.24,-7.906 -15.24,-4.604 ; -13.97,-7.906 -13.97,-4.604 ; -12.7,-7.906 -12.7,-4.604 ; -11.43,-7.906 -11.43,-4.604 ; -10.16,-7.906 -10.16,-4.604 ; -8.89,-7.906 -8.89,-4.604 ; -7.62,-4.604 -7.62,-7.906 ; -6.35,-7.208 -6.35,-4.604 ; -5.08,-6.636 -5.08,-4.604 ; -3.81,-5.938 -3.81,-4.604 ; -2.54,-5.303 -2.54,-4.604 ; 2.54,-5.239 2.54,-4.604 ; 3.81,-5.874 3.81,-4.604 ; 5.08,-6.509 5.08,-4.604 ; 6.35,-7.208 6.35,-4.604 ; 7.62,-7.843 7.62,-4.604 ; 8.89,-7.906 8.89,-4.604 ; 10.16,-7.906 10.16,-4.604 ; 11.43,-7.906 11.43,-4.604 ; 12.7,-7.906 12.7,-4.604 ; 13.97,-7.906 13.97,-4.604 ; 15.24,-7.843 15.24,-4.604 ; 20.066,-4.604 20.066,-7.906 7.62,-7.906 1.016,-4.541 ; -22.669,1.365 -23.177,1.365 -23.177,-23.273 -18.098,-23.273 -18.098,-13.494 -16.637,-12.034 16.637,-12.034 18.098,-13.494 18.098,-23.273 23.177,-23.273 23.177,1.365 22.669,1.365 ; -22.669,1.365 -22.669,2.952 -17.462,2.952 -17.462,-0.667 ; -22.669,1.365 -22.669,-0.667 -20.066,-2.064 ; -20.066,-2.064 -17.462,-0.667 ; -20.066,-2.064 -20.066,-4.541 -1.016,-4.541 ; -17.462,-0.667 17.462,-0.667 ; -7.62,-7.906 -1.016,-4.541 ; -1.016,-4.541 -1.016,-3.398 1.016,-3.398 1.016,-4.541 ; 1.016,-4.541 20.066,-4.541 20.066,-2.064 ; 17.462,-0.667 17.462,3.016 22.669,3.016 22.669,1.365 ; 17.462,-0.667 20.066,-2.064 ; 20.066,-2.064 22.669,-0.667 22.669,1.365
Top Paste:
  rectangle: -26,-10.025 -23.2,-5.025
  rectangle: 23.2,-10.05 26,-5.05
Top Solder:
  rectangle: -26.025,-10.05 -23.175,-5
  rectangle: 23.175,-10.075 26.025,-5.025
Mechanical 16:
  lines w0.203: -23.177,-9.423 -25.209,-9.423 -25.209,-5.613 -23.177,-5.613 ; 23.177,-9.486 25.209,-9.486 25.209,-5.613 23.177,-5.613

## N7E50516 [mil]
pads (54):
  round 66.93 hole 66.93: 1(-762.6,0) 1(762.6,0)
  round 86.61 hole 86.61: 1(-762.6,118.11) 1(762.6,118.11)
  rect 15.75x137.8 smd: 1(-612.5,236.81) 2(-562.5,236.81) 3(-512.5,236.81) 4(-462.5,236.81) 5(-412.5,236.81) 6(-362.5,236.81) 7(-312.5,236.81) 8(-262.5,236.81) 9(-212.5,236.81) 10(-162.5,236.81) 11(-112.5,236.81) 12(-62.5,236.81) 13(-12.5,236.81) 14(37.5,236.81) 15(87.5,236.81) 16(137.5,236.81) 17(187.5,236.81) 18(237.5,236.81) 19(287.5,236.81) 20(337.5,236.81) 21(387.5,236.81) 22(437.5,236.81) 23(487.5,236.81) 24(537.5,236.81) 25(587.5,236.81) 26(-587.5,236.81) 27(-537.5,236.81) 28(-487.5,236.81) 29(-437.5,236.81) 30(-387.5,236.81) 31(-337.5,236.81) 32(-287.5,236.81) 33(-237.5,236.81) 34(-187.5,236.81) 35(-137.5,236.81) 36(-87.5,236.81) 37(-37.5,236.81) 38(12.5,236.81) 39(62.5,236.81) 40(112.5,236.81) 41(162.5,236.81) 42(212.5,236.81) 43(262.5,236.81) 44(312.5,236.81) 45(362.5,236.81) 46(412.5,236.81) 47(462.5,236.81) 48(512.5,236.81) 49(562.5,236.81) 50(612.5,236.81)
Top Layer:
  rectangle: -995.67,-74.8 -885.43,102.36
  rectangle: 885.43,-74.8 995.67,102.36
Top Overlay:
  lines w8: -884.55,168.11 -844.86,168.11 ; -884.07,167.93 -884.07,-332.93 -844.23,-332.93 -844.23,-58.09 ; -843.17,-332.93 ccw(c-843.17,-302.93) -813.17,-302.93 ; -842.76,-56.52 -807.09,-56.52 -787.4,-39.37 -708.66,-39.37 -688.98,-56.52 669.29,-56.52 688.98,-39.37 767.72,-39.37 787.4,-56.52 852.6,-56.52 ; -813.17,-304.9 -813.17,-57.19 ; -677.17,234.25 -677.17,269.69 -649.61,269.69 -649.61,88.58 ; -649.61,88.11 649.61,88.11 ; 649.61,90.55 649.61,269.69 677.17,269.69 677.17,234.25 ; 821.04,-302.93 ccw(c851.04,-302.93) 851.04,-332.93 ; 821.04,-302.4 821.04,-57.72 ; 854.07,-56.12 854.07,-332.93 884.07,-332.93 884.07,167.93 ; 884.55,168.11 844.86,168.11 ; -844.86,168.11 -844.86,230.61 -677.26,230.61 -677.26,88.11 -762.05,33.11 -844.86,88.11 -844.86,168.11 ; 844.86,168.11 844.86,233.11 677.26,233.11 677.26,88.11 762.05,33.11 844.86,88.11 844.86,168.11
  lines w18: -600,-205.43 -600,-67.93 ; -550,-180.43 -550,-67.93 ; -500,-180.43 -500,-67.93 ; -450,-180.43 -450,-67.93 ; -400,-180.43 -400,-67.93 ; -350,-180.43 -350,-67.93 ; -300,-180.43 -300,-67.93 ; -250,-180.43 -250,-67.93 ; -200,-180.43 -200,-67.93 ; -150,-180.43 -150,-67.93 ; -100,-180.43 -100,-67.93 ; -50,-180.43 -50,-67.93 ; 0,-205.43 0,-67.93 ; 50,-180.43 50,-67.93 ; 100,-180.43 100,-67.93 ; 150,-180.43 150,-67.93 ; 200,-180.43 200,-67.93 ; 250,-180.43 250,-67.93 ; 300,-180.43 300,-67.93 ; 350,-180.43 350,-67.93 ; 400,-180.43 400,-67.93 ; 450,-180.43 450,-67.93 ; 500,-180.43 500,-67.93 ; 550,-180.43 550,-67.93 ; 600,-205.43 600,-67.93
  text "3M - N7E50-X516XX-20" at -500,-6.89 h77.5
Top Paste:
  rectangle: -994.09,-72.83 -887.8,99.41
  rectangle: 887.8,-72.83 994.09,100.39
Top Solder:
  rectangle: -996.06,-74.8 -885.83,102.36
  rectangle: 885.83,-74.8 996.06,102.36
Mechanical 14:
  lines w2: -885.04,-807.09 886.61,-807.09
  text "PCB" at -98.43,-787.4 h77.5
Mechanical 16:
  lines w8: -884.55,-63.7 -964.55,-63.7 -964.55,86.3 -884.55,86.3 ; 884.55,-66.2 964.55,-66.2 964.55,86.3 884.55,86.3

## PAK100/2500-5-10 [mil]
pads (10):
  round 56 hole 39.37: 1(-200,-50) 2(-200,50) 3(-100,-50) 4(-100,50) 5(0,-50) 6(0,50) 7(100,-50) 8(100,50) 9(200,-50) 10(200,50)
Top Overlay:
  region: 0,0 10,0 10,10 0,10
  lines w8: -254.17,73.82 -393.7,73.82 -393.7,436.02 -74.13,436.02 ; 303.66,73.82 443.7,73.82 443.7,436.02 233.78,436.02 ; -74.13,436.02 -74.13,157.87 74.13,157.87 74.13,436.02 ; -74.13,436.02 74.13,436.02 ; 74.13,436.02 175.55,436.02 ; 175.55,436.02 233.78,436.02 ; 175.55,436.02 175.55,397.83 233.78,397.83 233.78,436.02
Mechanical 16:
  lines w8: -254.02,73.82 303.5,73.82